# Altium schematic symbol library DataBase.SchLib: 56 symbols
Pins are listed as number, name and electrical type; pins without a type are passive.

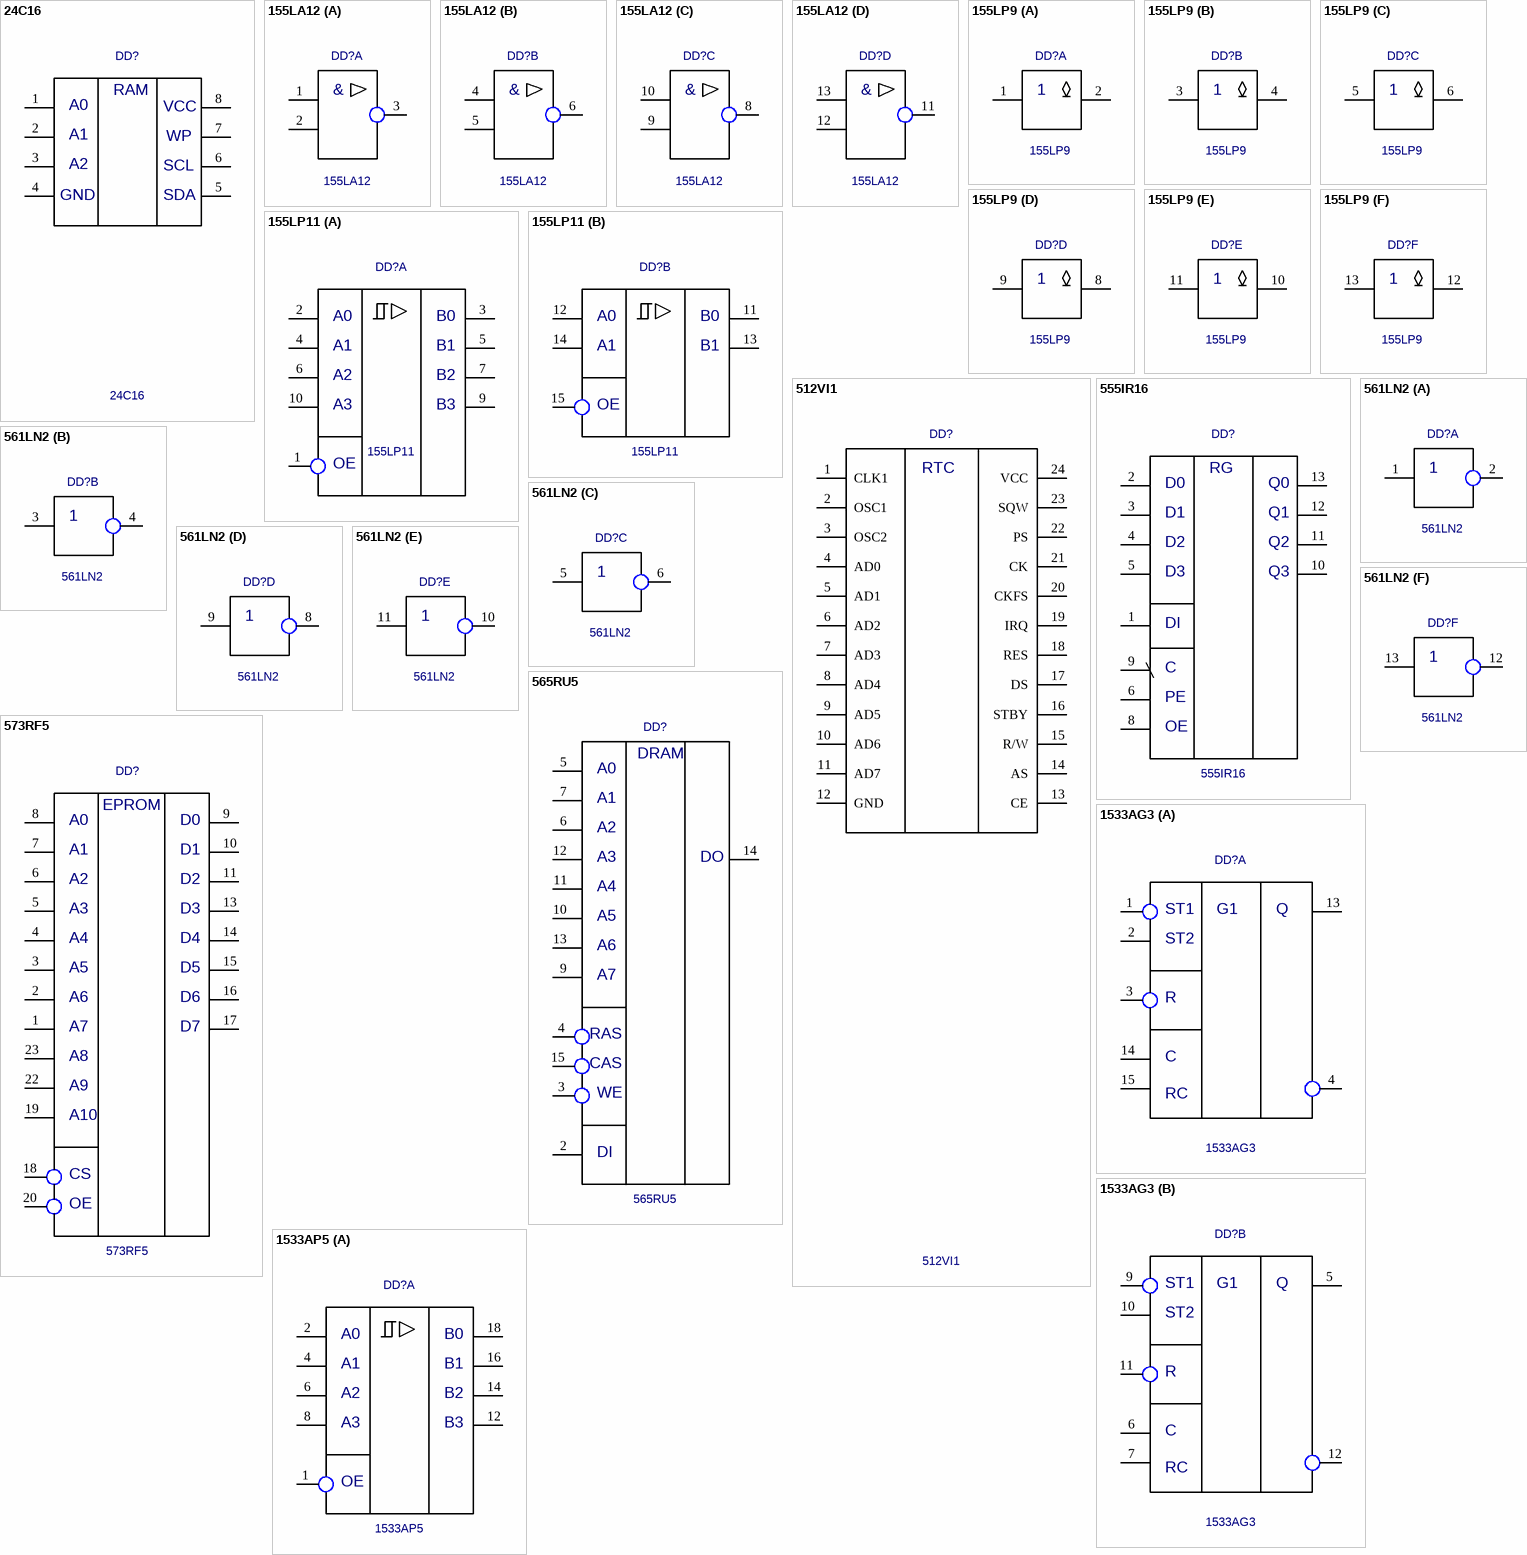
[diagram p0: symbols 24C16 to 1533AP5]

## 24C16
designator DD?
Value: *
footprint DIP8
pins: 1 A0, 2 D1, 3 D2, 4 GND (power), 5 Q3, 6 Q2, 7 Q1, 8 VCC (power)
text: RAM; A1; WP; A2; SCL; SDA

## 155LA12
designator DD?
Value: *
footprint DIP14
pins on every part: 7 GND (power) hidden, 14 +5V (power) hidden
part A pins: 1 A, 2 B, 3 C
part B pins: 4 A, 5 B, 6 C
part C pins: 8 C, 9 B, 10 A
part D pins: 11 C, 12 B, 13 A
part A text: &
part B text: &
part C text: &
part D text: &

## 155LP9
designator DD?
Value: *
footprint DIP14
pins on every part: 7 GND (power) hidden, 14 +5V (power) hidden
part A pins: 1 A, 2 B
part B pins: 3 A, 4 B
part C pins: 5 A, 6 B
part D pins: 8 B, 9 A
part E pins: 10 B, 11 A
part F pins: 12 B, 13 A

## 155LP11
designator DD?
Value: *
footprint DIP16
pins on every part: 8 GND (power) hidden, 16 +5V (power) hidden
part A pins: 1 OE, 2 A0, 3 B0, 4 A1, 5 B1, 6 A2, 7 B2, 9 B3, 10 A3
part B pins: 11 B10, 12 A10, 13 B11, 14 A11, 15 OE1

## 512VI1
designator DD?
Value: *
footprint DIP24_15
pins: 1 CLK1, 2 OSC1, 3 OSC2, 4 AD0, 5 AD1, 6 AD2, 7 AD3, 8 AD4, 9 AD5, 10 AD6, 11 AD7, 12 GND (power), 13 CE, 14 AS, 15 R/W, 16 STBY, 17 DS, 18 RES, 19 IRQ, 20 CKFS, 21 CK, 22 PS, 23 SQW, 24 VCC (power)
text: RTC

## 555IR16
designator DD?
Value: *
footprint DIP14
pins: 1 DI, 2 D0, 3 D1, 4 D2, 5 D3, 6 PE, 7 GND (power) hidden, 8 OE, 9 C, 10 Q3, 11 Q2, 12 Q1, 13 Q0, 14 +5V (power) hidden
text: RG

## 561LN2
designator DD?
Value: *
footprint DIP14
pins on every part: 7 GND (power) hidden, 14 +5V (power) hidden
part A pins: 1 A, 2 B
part B pins: 3 A, 4 B
part C pins: 5 A, 6 B
part D pins: 8 B, 9 A
part E pins: 10 B, 11 A
part F pins: 12 B, 13 A

## 565RU5
designator DD?
Value: *
footprint DIP16
pins: 1 hidden, 2 DI, 3 WE, 4 RAS, 5 A0, 6 A2, 7 A1, 8 +5V (power) hidden, 9 A7, 10 A5, 11 A4, 12 A3, 13 A6, 14 DO, 15 CAS, 16 GND (power) hidden
text: DRAM

## 573RF5
designator DD?
Value: *
footprint DIP24_15
pins: 1 A7, 2 A6, 3 A5, 4 A4, 5 A3, 6 A2, 7 A1, 8 A0, 9 D0, 10 D1, 11 D2, 12 GND (power) hidden, 13 D3, 14 D4, 15 D5, 16 D6, 17 D7, 18 CS, 19 A10, 20 OE, 21 +5V (power) hidden, 22 A9, 23 A8, 24 +5V (power) hidden
text: EPROM

## 1533AG3
designator DD?
Value: *
footprint DIP16
pins on every part: 8 GND (power) hidden, 16 +5V (power) hidden
part A pins: 1 ST1, 2 ST2, 3 R, 4 Q/, 13 Q, 14 C, 15 RC
part B pins: 5 Q, 6 C, 7 RC, 9 ST1, 10 ST2, 11 R, 12 Q/
part A text: G1
part B text: G1

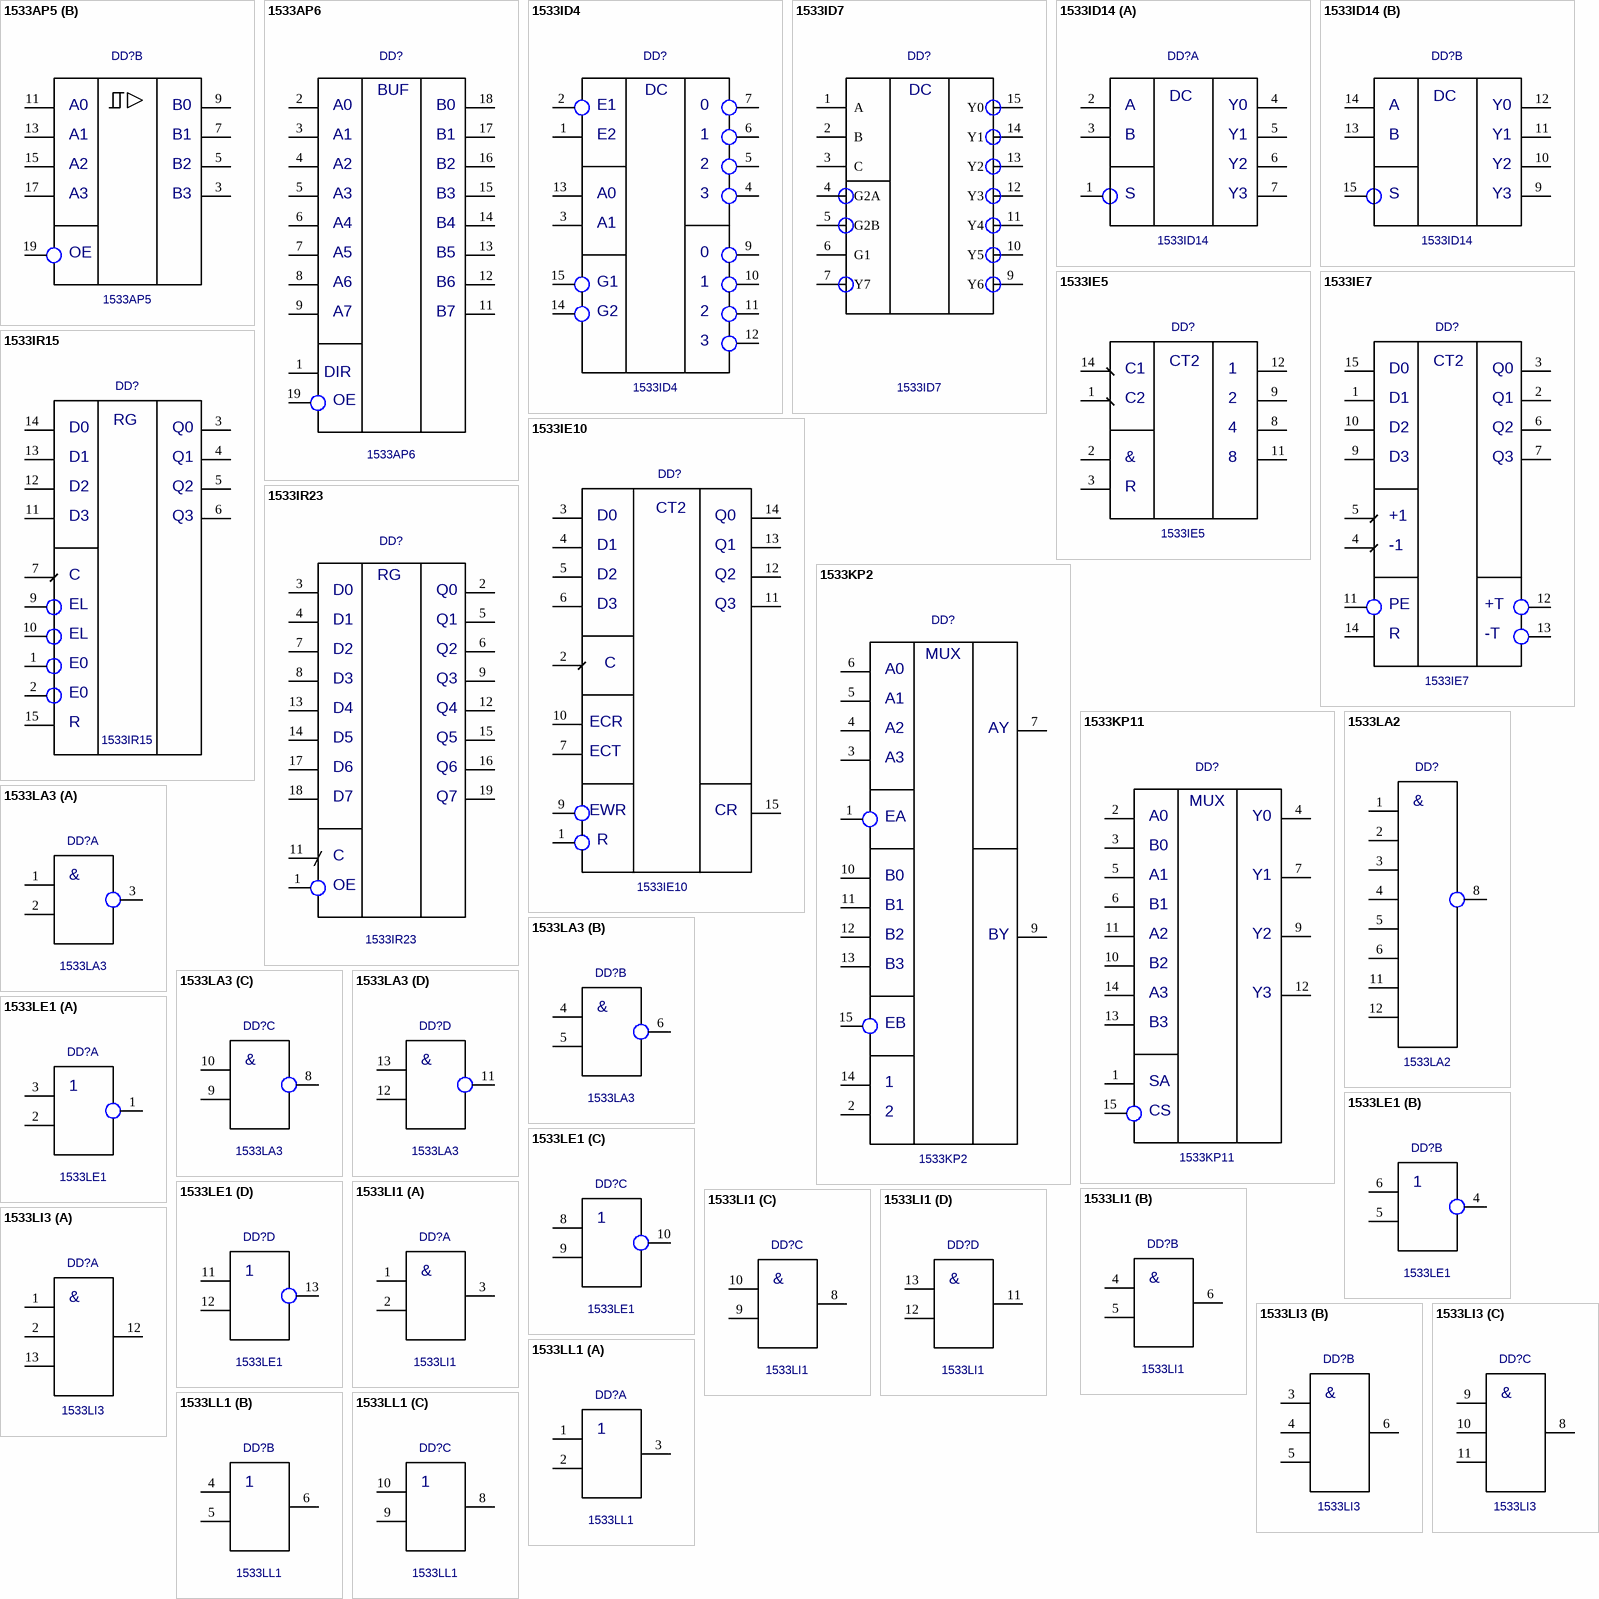
[diagram p1: symbols 1533AP5 to 1533LL1]

## 1533AP5
designator DD?
Value: *
footprint DIP20
pins on every part: 10 GND (power) hidden, 20 +5V (power) hidden
part A pins: 1 OE, 2 A0, 4 A1, 6 A2, 8 A3, 12 B3, 14 B2, 16 B1, 18 B0
part B pins: 3 B3, 5 B2, 7 B1, 9 B0, 11 A0, 13 A1, 15 A2, 17 A3, 19 OE

## 1533AP6
designator DD?
Value: *
footprint DIP20
pins: 1 DIR, 2 D7, 3 D0, 4 D1, 5 D2, 6 D3, 7 D4, 8 D5, 9 D6, 10 GND (power) hidden, 11 Q7, 12 Q6, 13 Q5, 14 Q4, 15 Q3, 16 Q2, 17 Q1, 18 Q0, 19 E0, 20 +5V (power) hidden
text: BUF; A0; B0; A1; B1; A2; B2; A3; B3; A4; B4; A5; B5; A6; B6; A7; B7; OE

## 1533ID4
designator DD?
Value: *
footprint DIP16
pins: 1 E2, 2 E1, 3 A1, 4 Q3, 5 Q2, 6 Q1, 7 Q0, 8 GND (power) hidden, 9 Q4, 10 Q5, 11 Q6, 12 Q7, 13 A0, 14 G2, 15 G1, 16 +5V (power) hidden
text: DC; 0

## 1533ID7
designator DD?
Value: *
footprint DIP16
pins: 1 A, 2 B, 3 C, 4 G2A, 5 G2B, 6 G1, 7 Y7, 8 GND (power) hidden, 9 Y6, 10 Y5, 11 Y4, 12 Y3, 13 Y2, 14 Y1, 15 Y0, 16 +5V (power) hidden
text: DC

## 1533ID14
designator DD?
Value: *
footprint DIP16
pins on every part: 8 GND (power) hidden, 16 +5V (power) hidden
part A pins: 1 OE, 2 A0, 3 A1, 4 B0, 5 B1, 6 B2, 7 B3
part B pins: 9 B3, 10 B2, 11 B1, 12 B0, 13 A1, 14 A0, 15 OE
part A text: DC; A; Y0; B; Y1; Y2; S; Y3
part B text: DC; A; Y0; B; Y1; Y2; S; Y3

## 1533IE5
designator DD?
Value: *
footprint DIP14
pins: 1 C2, 2 &, 3 R, 4 hidden, 5 +5V (power) hidden, 6 hidden, 7 hidden, 8 4, 9 2, 10 GND (power) hidden, 11 8, 12 1, 13 hidden, 14 C1
text: CT2

## 1533IE7
designator DD?
Value: *
footprint DIP16
pins: 1 D1, 2 Q1, 3 Q0, 4 -1, 5 +1, 6 Q2, 7 Q3, 8 GND (power) hidden, 9 D3, 10 D2, 11 PE, 12 +T, 13 -T, 14 R, 15 D0, 16 +5V (power) hidden
text: CT2

## 1533IE10
designator DD?
Value: *
footprint DIP16
pins: 1 R, 2 C, 3 D0, 4 D1, 5 D2, 6 D3, 7 ECT, 8 GND (power) hidden, 9 EWR, 10 ECR, 11 Q3, 12 Q2, 13 Q1, 14 Q0, 15 CR, 16 +5V (power) hidden
text: CT2

## 1533IR15
designator DD?
Value: *
footprint DIP16
pins: 1 PE, 2 PE, 3 Q0, 4 Q1, 5 Q2, 6 Q3, 7 C, 8 GND (power) hidden, 9 PE, 10 PE, 11 D3, 12 D2, 13 D1, 14 D0, 15 R, 16 +5V (power) hidden
text: RG; EL; E0

## 1533IR23
designator DD?
Value: *
footprint DIP20
pins: 1 OE, 2 Q0, 3 D0, 4 D1, 5 Q1, 6 Q2, 7 D2, 8 D3, 9 Q3, 10 GND (power) hidden, 11 C, 12 Q4, 13 D4, 14 D5, 15 Q5, 16 Q6, 17 D6, 18 D7, 19 Q7, 20 +5V (power) hidden
text: RG

## 1533KP2
designator DD?
Value: *
footprint DIP16
pins: 1 EA, 2, 3 A3, 4 A2, 5 A1, 6 A0, 7 AY, 8 GND (power) hidden, 9 BY, 10 B0, 11 B1, 12 B2, 13 B3, 14 1, 15 EB, 16 +5V (power) hidden
text: MUX

## 1533KP11
designator DD?
Value: *
footprint DIP16
pins: 1 SA, 2 A0, 3 B0, 4 Y0, 5 A1, 6 B1, 7 Y1, 8 GND (power) hidden, 9 Y2, 10 B2, 11 A2, 12 Y3, 13 B3, 14 A3, 15 CS, 16 +5V (power) hidden
text: MUX

## 1533LA2
designator DD?
Value: *
footprint DIP14
pins: 1 A, 2 B, 3 C, 4 D, 5 E, 6 F, 7 GND (power) hidden, 8 Y, 9 hidden, 10 hidden, 11 G, 12 H, 13 hidden, 14 +5V (power) hidden
text: &

## 1533LA3
designator DD?
Value: *
footprint DIP14
pins on every part: 7 GND (power) hidden, 14 +5V (power) hidden
part A pins: 1 A, 2 B, 3 C
part B pins: 4 A, 5 B, 6 C
part C pins: 8 C, 9 B, 10 A
part D pins: 11 C, 12 B, 13 A
part A text: &
part B text: &
part C text: &
part D text: &

## 1533LE1
designator DD?
Value: *
footprint DIP14
pins on every part: 7 GND (power) hidden, 14 +5V (power) hidden
part A pins: 1 C, 2 B, 3 A
part B pins: 4 C, 5 B, 6 A
part C pins: 8 A, 9 B, 10 C
part D pins: 11 A, 12 B, 13 C

## 1533LI1
designator DD?
Value: *
footprint DIP14
pins on every part: 7 GND (power) hidden, 14 +5V (power) hidden
part A pins: 1 A, 2 B, 3 C
part B pins: 4 A, 5 B, 6 C
part C pins: 8 C, 9 B, 10 A
part D pins: 11 C, 12 B, 13 A
part A text: &
part B text: &
part C text: &
part D text: &

## 1533LI3
designator DD?
Value: *
footprint DIP14
pins on every part: 7 GND (power) hidden, 14 +5V (power) hidden
part A pins: 1 A, 2 B, 12 D, 13 C
part B pins: 3 A, 4 B, 5 C, 6 D
part C pins: 8 D, 9 A, 10 B, 11 C
part A text: &
part B text: &
part C text: &

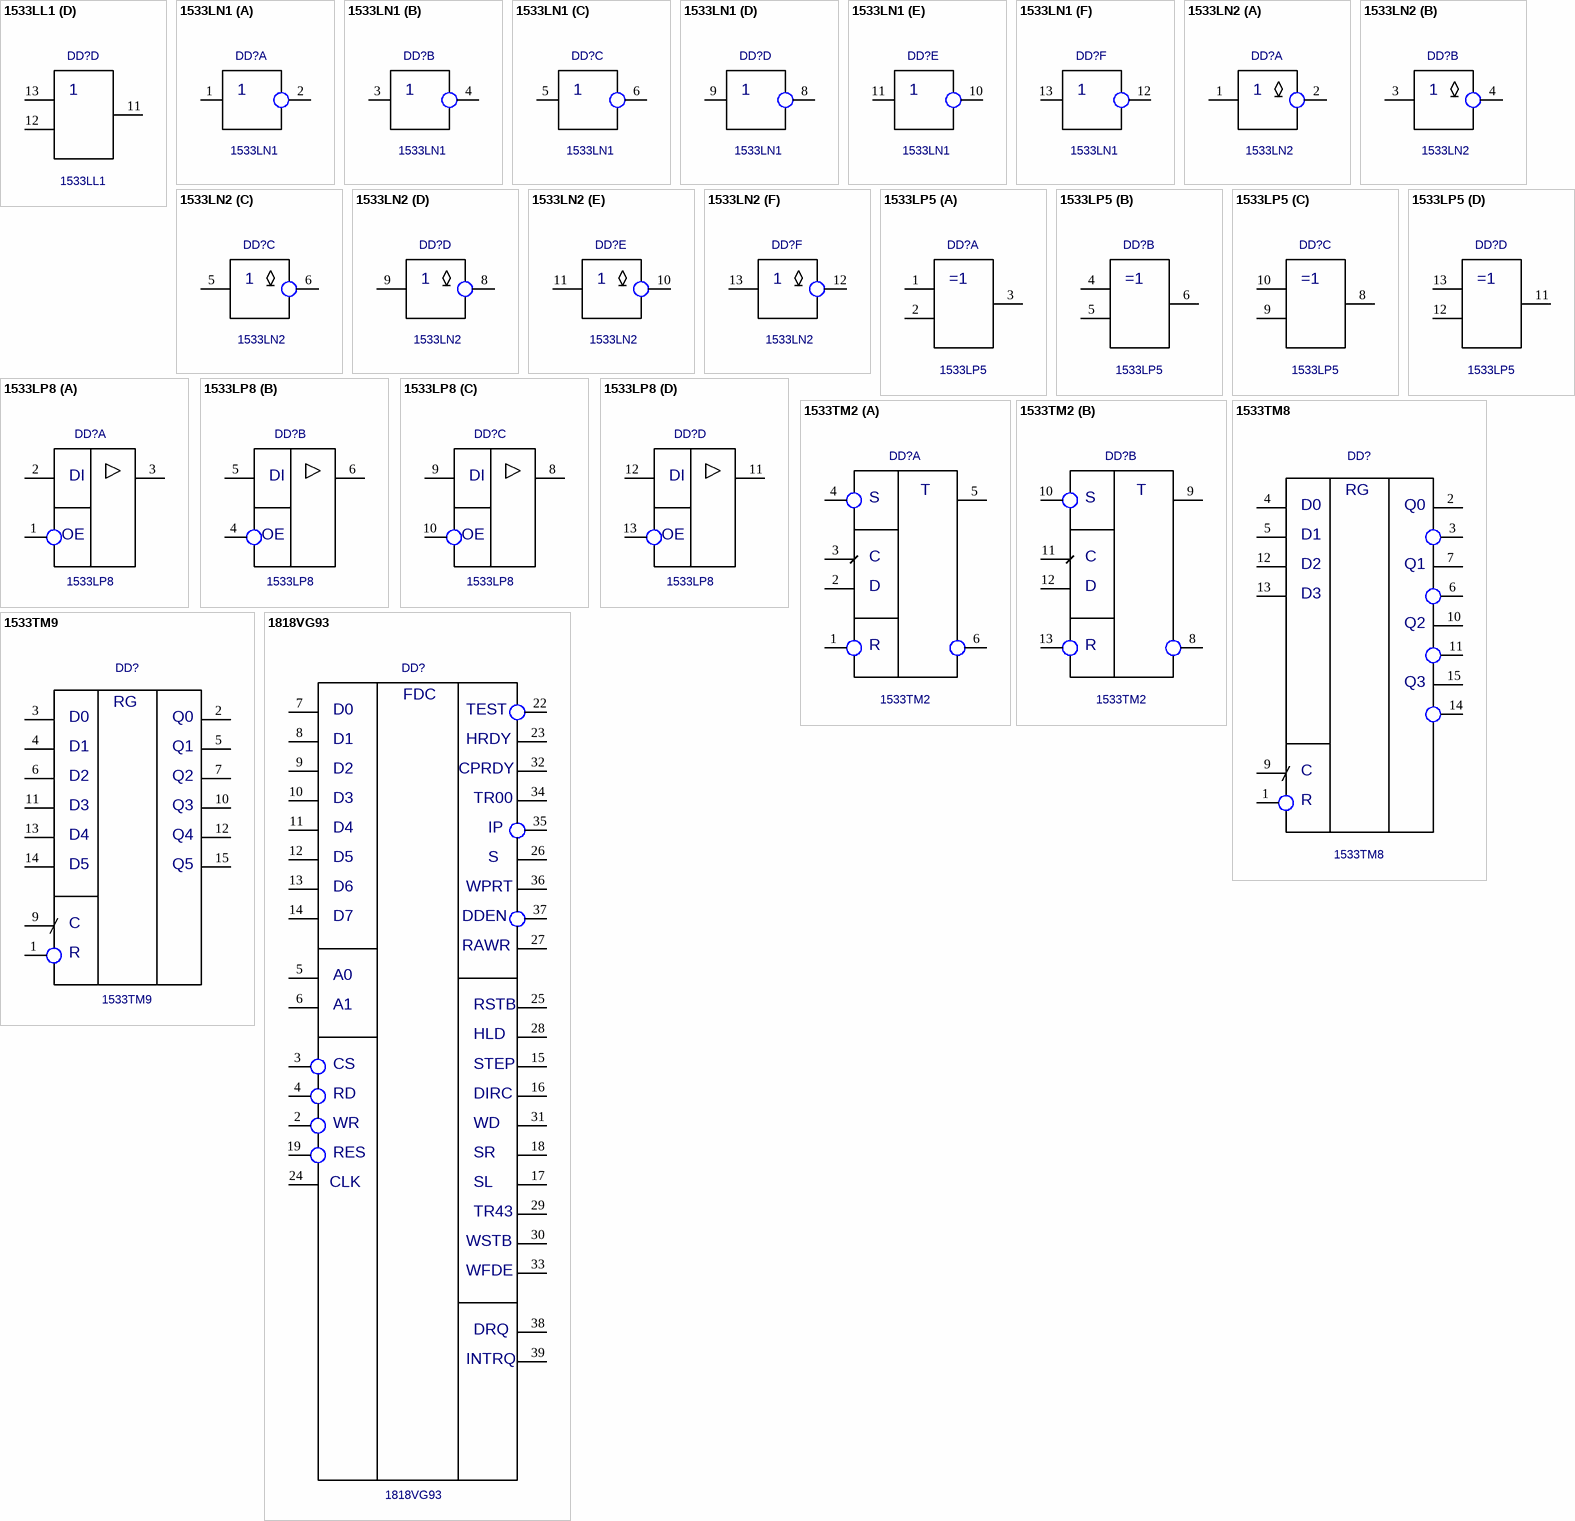
[diagram p2: symbols 1533LL1 to 1818VG93]

## 1533LL1
designator DD?
Value: *
footprint DIP14
pins on every part: 7 GND (power) hidden, 14 +5V (power) hidden
part A pins: 1 A, 2 B, 3 C
part B pins: 4 A, 5 B, 6 C
part C pins: 8 C, 9 B, 10 A
part D pins: 11 C, 12 B, 13 A

## 1533LN1
designator DD?
Value: *
footprint DIP14
pins on every part: 7 GND (power) hidden, 14 +5V (power) hidden
part A pins: 1 A, 2 B
part B pins: 3 A, 4 B
part C pins: 5 A, 6 B
part D pins: 8 B, 9 A
part E pins: 10 B, 11 A
part F pins: 12 B, 13 A

## 1533LN2
designator DD?
Value: *
footprint DIP14
pins on every part: 7 GND (power) hidden, 14 +5V (power) hidden
part A pins: 1 A, 2 B
part B pins: 3 A, 4 B
part C pins: 5 A, 6 B
part D pins: 8 B, 9 A
part E pins: 10 B, 11 A
part F pins: 12 B, 13 A

## 1533LP5
designator DD?
Value: *
footprint DIP14
pins on every part: 7 GND (power) hidden, 14 +5V (power) hidden
part A pins: 1 A, 2 B, 3 C
part B pins: 4 A, 5 B, 6 C
part C pins: 8 C, 9 B, 10 A
part D pins: 11 C, 12 B, 13 A

## 1533LP8
designator DD?
Value: *
footprint DIP14
pins on every part: 7 GND (power) hidden, 14 +5V (power) hidden
part A pins: 1 B, 2 A, 3 C
part B pins: 4 B, 5 A, 6 C
part C pins: 8 C, 9 A, 10 B
part D pins: 11 C, 12 A, 13 B
part A text: DI; OE
part B text: DI; OE
part C text: DI; OE
part D text: DI; OE

## 1533TM2
designator DD?
Value: *
footprint DIP14
pins on every part: 7 GND (power) hidden, 14 +5V (power) hidden
part A pins: 1 R, 2 D, 3 C, 4 S, 5 Q, 6 Q/
part B pins: 8 Q/, 9 Q, 10 S, 11 C, 12 D, 13 R
part A text: T
part B text: T

## 1533TM8
designator DD?
Value: *
footprint DIP16
pins: 1 R, 2 Q0, 3 Q0/, 4 D0, 5 D1, 6 Q1/, 7 Q1, 8 GND (power) hidden, 9 C, 10 Q2, 11 Q2/, 12 D2, 13 D3, 14 Q4/, 15 Q4, 16 +5V (power) hidden
text: RG; Q3

## 1533TM9
designator DD?
Value: *
footprint DIP16
pins: 1 R, 2 Q0, 3 D0, 4 D1, 5 Q1, 6 D2, 7 Q2, 8 GND (power) hidden, 9 C, 10 Q3, 11 D3, 12 Q4, 13 D4, 14 D5, 15 Q5, 16 +5V (power) hidden
text: RG

## 1818VG93
designator DD?
Value: *
footprint DIP40_15
pins: 1 hidden, 2 WR, 3 CS, 4 RD, 5 A0, 6 A1, 7 D0, 8 D1, 9 D2, 10 D3, 11 D4, 12 D5, 13 D6, 14 D7, 15 STEP, 16 DIRC, 17 SL, 18 SR, 19 RES, 20 GND (power) hidden, 21 +5V (power) hidden, 22 TEST, 23 HRDY, 24 CLK, 25 RSTB, 26 S, 27 RAWR, 28 HLD, 29 TR43, 30 WSTB, 31 WD, 32 CPRDY, 33 WFDE, 34 TR00, 35 IP, 36 WPRT, 37 DDEN, 38 DRQ, 39 INTRQ, 40 +12V (power) hidden
text: FDC

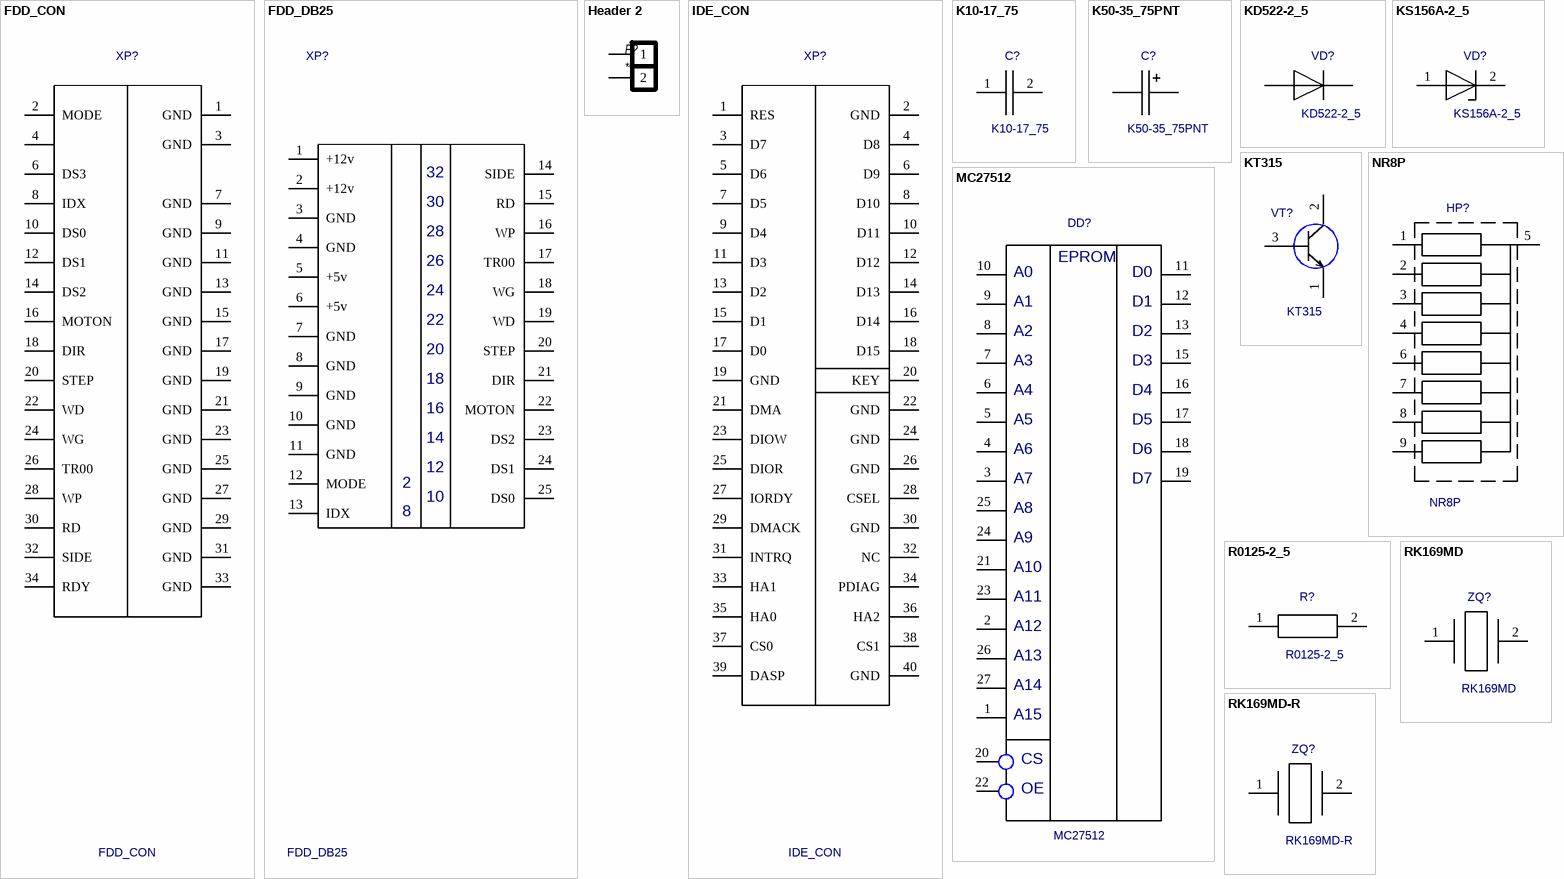
[diagram p3: symbols FDD_CON to RK169MD-R]

## FDD_CON
designator XP?
Value: *
footprint FDD_CON_Male
pins: 1 GND, 2 MODE, 3 GND, 4, 6 DS3, 7 GND, 8 IDX, 9 GND, 10 DS0, 11 GND, 12 DS1, 13 GND, 14 DS2, 15 GND, 16 MOTON, 17 GND, 18 DIR, 19 GND, 20 STEP, 21 GND, 22 WD, 23 GND, 24 WG, 25 GND, 26 TR00, 27 GND, 28 WP, 29 GND, 30 RD, 31 GND, 32 SIDE, 33 GND, 34 RDY

## FDD_DB25
designator XP?
Value: *
footprint DSUB1.385-2H25A (Connector; D Subminiature; 25 Position; Right Angle; Pitch 1.385 mm)
pins: 1 +12v, 2 +12v, 3 GND, 4 GND, 5 +5v, 6 +5v, 7 GND, 8 GND, 9 GND, 10 GND, 11 GND, 12 MODE, 13 IDX, 14 SIDE, 15 RD, 16 WP, 17 TR00, 18 WG, 19 WD, 20 STEP, 21 DIR, 22 MOTON, 23 DS2, 24 DS1, 25 DS0, 26 hidden, 27 hidden, 28 hidden, 29 hidden, 30 hidden, 31 hidden, 32 hidden, 33 hidden, 34 hidden, 35 hidden, 36 hidden, 37 hidden, 38 hidden, 39 hidden, 40 hidden, 41 hidden, 42 hidden, 43 hidden, 44 hidden, 45 hidden, 46 hidden, 47 hidden, 48 hidden, 49 hidden, 50 hidden

## Header 2
designator P?
footprint Header 2
footprint DG126 (DG126 Port)
footprint JST HX 2 (Pitch 2.5mm)
footprint XT60PW-M20
footprint JST PH 2 (Pitch 2.0mm)
footprint XT60-F
footprint XT60-M
footprint XT30-F
footprint XT30-M
footprint XT30PW-F
footprint XT30PW-M
pins: 1, 2

## IDE_CON
designator XP?
Value: *
footprint IDE_CON
pins: 1 RES, 2 GND, 3 D7, 4 D8, 5 D6, 6 D9, 7 D5, 8 D10, 9 D4, 10 D11, 11 D3, 12 D12, 13 D2, 14 D13, 15 D1, 16 D14, 17 D0, 18 D15, 19 GND, 20 KEY, 21 DMA, 22 GND, 23 DIOW, 24 GND, 25 DIOR, 26 GND, 27 IORDY, 28 CSEL, 29 DMACK, 30 GND, 31 INTRQ, 32 NC, 33 HA1, 34 PDIAG, 35 HA0, 36 HA2, 37 CS0, 38 CS1, 39 DASP, 40 GND

## K10-17_75
designator C?
Value: *
footprint K10-17_75
pins: 1 A, 2 B

## K50-35_75PNT
designator C?
Value: *
footprint K50-35_75PNT
pins: 1 A, 2 B

## KD522-2_5
designator VD?
Value: *
footprint KD522-2_5
pins: 1 A, 2 B

## KS156A-2_5
designator VD?
Value: *
footprint KS156A-2_5
pins: 1 A, 2 B

## KT315
designator VT?
Value: *
footprint KT315
pins: 1 E, 2 C, 3 B

## MC27512
designator DD?
Value: *
footprint DIP28_15
pins: 1 A15, 2 A12, 3 A7, 4 A6, 5 A5, 6 A4, 7 A3, 8 A2, 9 A1, 10 A0, 11 D0, 12 D1, 13 D2, 14 GND (power) hidden, 15 D3, 16 D4, 17 D5, 18 D6, 19 D7, 20 CS, 21 A10, 22 OE, 23 A11, 24 A9, 25 A8, 26 A13, 27 A14, 28 +5V (power) hidden
text: EPROM

## NR8P
designator HP?
Value: *
footprint NR8P
pins: 1 A, 2 B, 3 C, 4 D, 5 I, 6 E, 7 F, 8 G, 9 H

## R0125-2_5
designator R?
Value: *
footprint R0125-2_5
pins: 1 A, 2 B

## RK169MD
designator ZQ?
Value: *
footprint RK169MD
pins: 1 A, 2 B

## RK169MD-R
designator ZQ?
Value: *
footprint RK169MD-R
pins: 1 A, 2 B

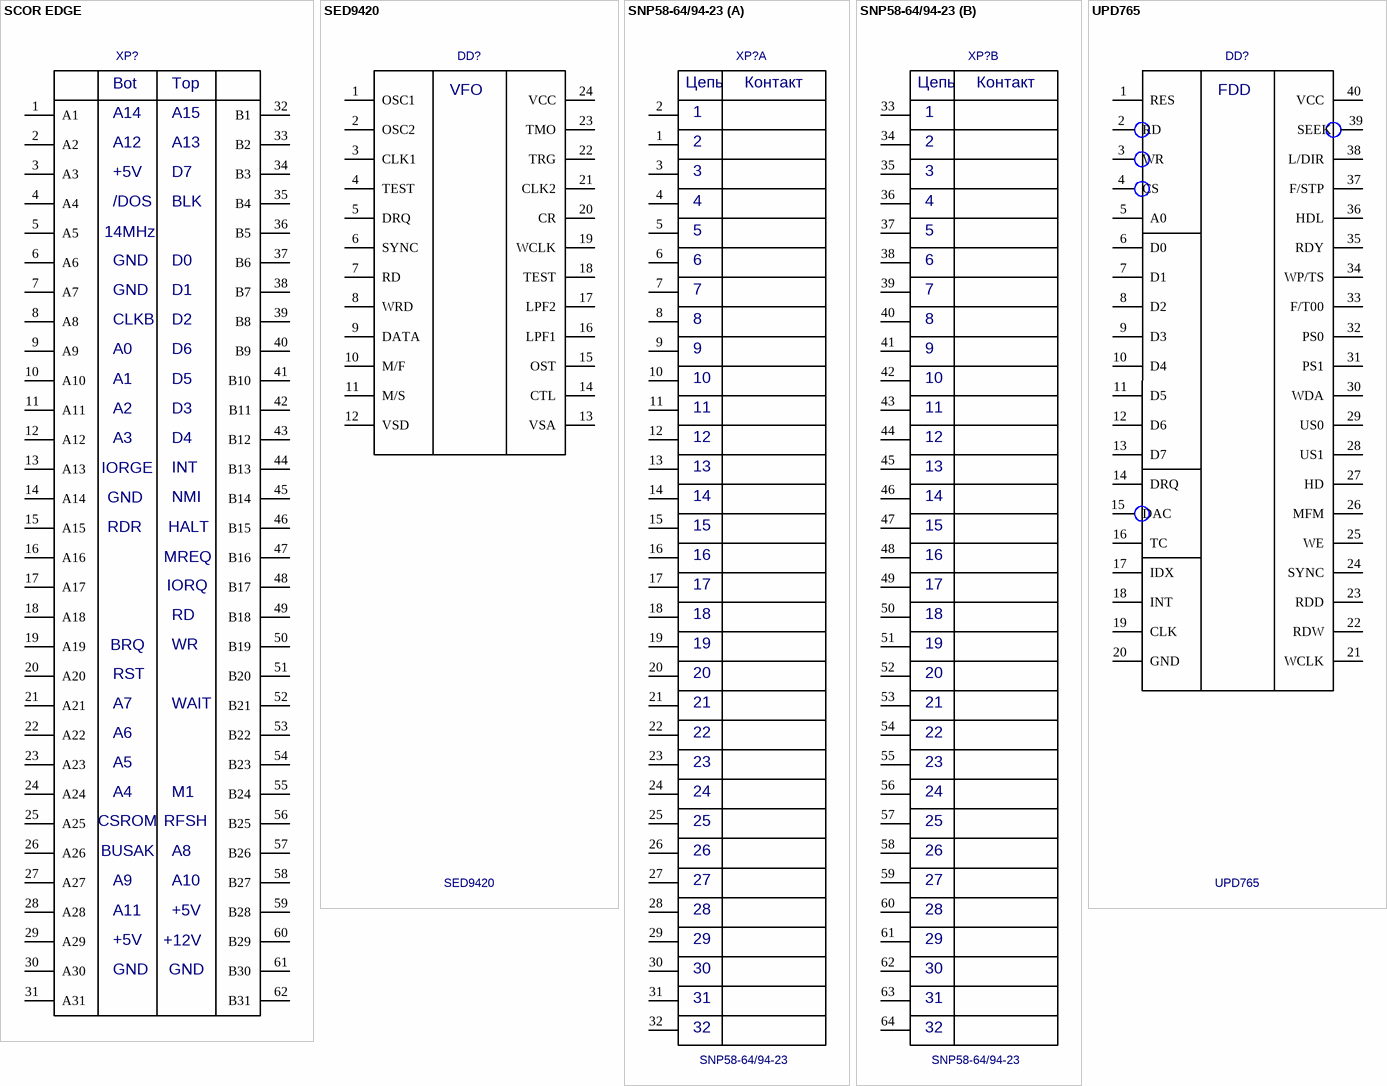
[diagram p4: symbols SCOR EDGE to UPD765]

## SCOR EDGE
designator XP?, comment SCORP EDGE  (value not drawn)
Value: *
footprint SCORPION
pins: 1 A1, 2 A2, 3 A3, 4 A4, 5 A5, 6 A6, 7 A7, 8 A8, 9 A9, 10 A10, 11 A11, 12 A12, 13 A13, 14 A14, 15 A15, 16 A16, 17 A17, 18 A18, 19 A19, 20 A20, 21 A21, 22 A22, 23 A23, 24 A24, 25 A25, 26 A26, 27 A27, 28 A28, 29 A29, 30 A30, 31 A31, 32 B1, 33 B2, 34 B3, 35 B4, 36 B5, 37 B6, 38 B7, 39 B8, 40 B9, 41 B10, 42 B11, 43 B12, 44 B13, 45 B14, 46 B15, 47 B16, 48 B17, 49 B18, 50 B19, 51 B20, 52 B21, 53 B22, 54 B23, 55 B24, 56 B25, 57 B26, 58 B27, 59 B28, 60 B29, 61 B30, 62 B31
text: Bot; Top; +5V; D7; /DOS; BLK; 14MHz; GND; D0; D1; CLKB; D2; A0; D6; D5; D3; D4; IORGE; INT; NMI; RDR; HALT; MREQ; IORQ; RD; BRQ; WR; RST; WAIT; M1; CSROM; RFSH; BUSAK; +12V

## SED9420
designator DD?
Value: *
footprint DIP24_15
pins: 1 OSC1, 2 OSC2, 3 CLK1, 4 TEST, 5 DRQ, 6 SYNC, 7 RD, 8 WRD, 9 DATA, 10 M/F, 11 M/S, 12 VSD, 13 VSA, 14 CTL, 15 OST, 16 LPF1, 17 LPF2, 18 TEST, 19 WCLK, 20 CR, 21 CLK2, 22 TRG, 23 TMO, 24 VCC
text: VFO

## SNP58-64/94-23
designator XP?
Value: *
footprint SNP58-64/94-23
pins on every part: 65 hidden, 66 hidden
part A pins: 1 A1, 2 A2, 3 A3, 4 A4, 5 A5, 6 A6, 7 A7, 8 A8, 9 A9, 10 A10, 11 A11, 12 A12, 13 A13, 14 A14, 15 A15, 16 A16, 17 A17, 18 A18, 19 A19, 20 A20, 21 A21, 22 A22, 23 A23, 24 A24, 25 A25, 26 A26, 27 A27, 28 A28, 29 A29, 30 A30, 31 A31, 32 A32
part B pins: 33 B1, 34 B2, 35 B3, 36 B4, 37 B5, 38 B6, 39 B7, 40 B8, 41 B9, 42 B10, 43 B11, 44 B12, 45 B13, 46 B14, 47 B15, 48 B16, 49 B17, 50 B18, 51 B19, 52 B20, 53 B21, 54 B22, 55 B23, 56 B24, 57 B25, 58 B26, 59 B27, 60 B28, 61 B29, 62 B30, 63 B31, 64 B32
part A text: Цепь; Контакт
part B text: Цепь; Контакт

## UPD765
designator DD?
Value: *
footprint DIP40_15
pins: 1 RES, 2 RD, 3 WR, 4 CS, 5 A0, 6 D0, 7 D1, 8 D2, 9 D3, 10 D4, 11 D5, 12 D6, 13 D7, 14 DRQ, 15 DAC, 16 TC, 17 IDX, 18 INT, 19 CLK, 20 GND, 21 WCLK, 22 RDW, 23 RDD, 24 SYNC, 25 WE, 26 MFM, 27 HD, 28 US1, 29 US0, 30 WDA, 31 PS1, 32 PS0, 33 F/T00, 34 WP/TS, 35 RDY, 36 HDL, 37 F/STP, 38 L/DIR, 39 SEEK, 40 VCC
text: FDD

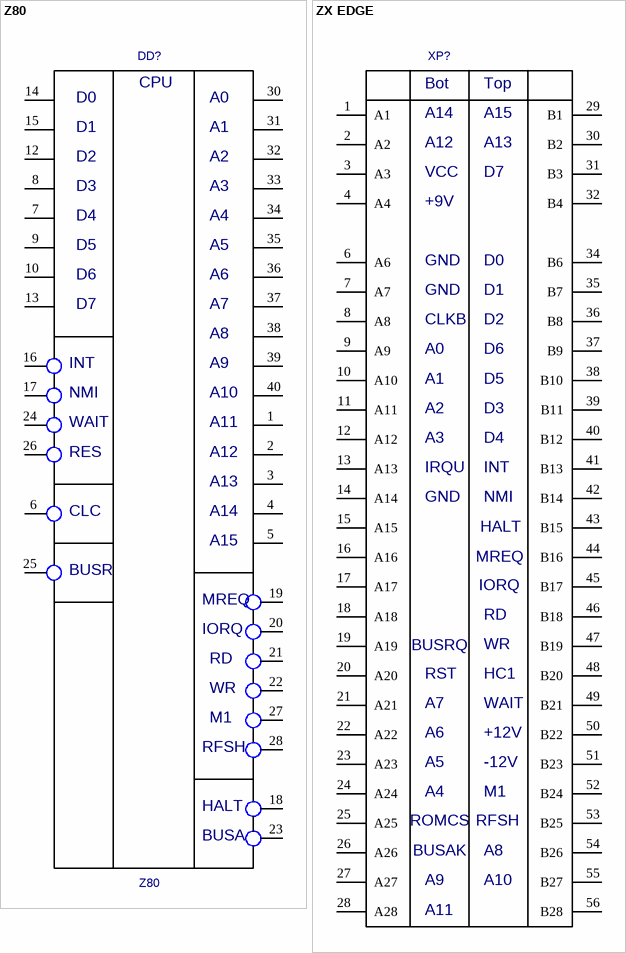
[diagram p5: symbols Z80 to ZX EDGE]

## Z80
designator DD?
Value: *
footprint DIP40_15
pins: 1 A11, 2 A12, 3 A13, 4 A14, 5 A15, 6 CLC, 7 D4, 8 D3, 9 D5, 10 D6, 11 +5V (power) hidden, 12 D2, 13 D7, 14 D0, 15 D1, 16 INT, 17 NMI, 18 HALT, 19 MREQ, 20 IORQ, 21 RD, 22 WR, 23 BUSA, 24 WAIT, 25 BUSR, 26 RES, 27 M1, 28 RFSH, 29 GND (power) hidden, 30 A0, 31 A1, 32 A2, 33 A3, 34 A4, 35 A5, 36 A6, 37 A7, 38 A8, 39 A9, 40 A10
text: CPU

## ZX EDGE
designator XP?  (value not drawn)
Value: *
footprint ZX_EDGE
footprint ZX_EDGE_Holes
pins: 1 A1, 2 A2, 3 A3, 4 A4, 6 A6, 7 A7, 8 A8, 9 A9, 10 A10, 11 A11, 12 A12, 13 A13, 14 A14, 15 A15, 16 A16, 17 A17, 18 A18, 19 A19, 20 A20, 21 A21, 22 A22, 23 A23, 24 A24, 25 A25, 26 A26, 27 A27, 28 A28, 29 B1, 30 B2, 31 B3, 32 B4, 34 B6, 35 B7, 36 B8, 37 B9, 38 B10, 39 B11, 40 B12, 41 B13, 42 B14, 43 B15, 44 B16, 45 B17, 46 B18, 47 B19, 48 B20, 49 B21, 50 B22, 51 B23, 52 B24, 53 B25, 54 B26, 55 B27, 56 B28
text: Bot; Top; VCC; D7; +9V; GND; D0; D1; CLKB; D2; A0; D6; D5; D3; D4; IRQU; INT; NMI; HALT; MREQ; IORQ; RD; BUSRQ; WR; RST; HC1; WAIT; +12V; A5; -12V; M1; ROMCS; RFSH; BUSAK